# EAGLE library part DRV_8871_SMD (library microbuilder)
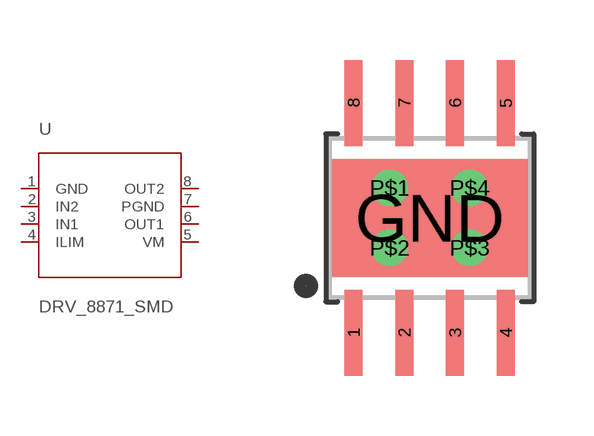
[diagram p0: symbol with the pads of HSOP8; footprint HSOP8]

Designator prefix -

## DRV_8871_SMD  [HSOP8]
1  GND
2  IN2
3  IN1
4  ILIM
5  VM
6  OUT1
7  PGND
8  OUT2

## Footprint HSOP8 (pad centres in mm)
smd 0.45 x 2.15: 1 -1.905,-2.875; 2 -0.635,-2.875; 3 0.635,-2.875; 4 1.905,-2.875; 5 1.905,2.875; 6 0.635,2.875; 7 -0.635,2.875; 8 -1.905,2.875
smd 4.9 x 2.95: GND 0,0
drill 0.4: P$1 -1,0.75; P$2 -1,-0.75; P$3 1,-0.75; P$4 1,0.75